# EAGLE library part DIP-BLACK-FEMALE-HEADER-VERT(7P-2.54) (library Seeed-OPL-Connector)
320030102
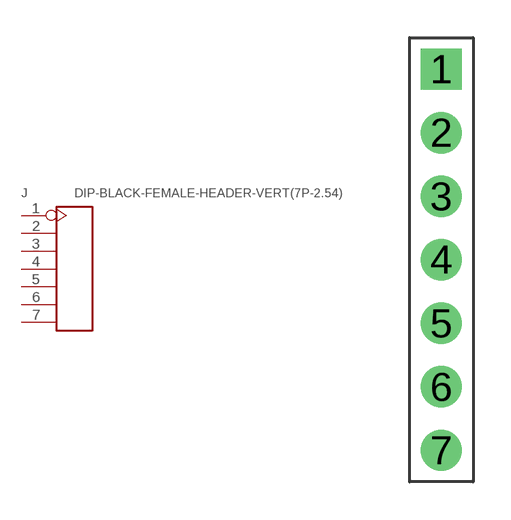
[diagram p124: symbol with the pads of H7-2.54; footprint H7-2.54]

Designator prefix J

## DIP-BLACK-FEMALE-HEADER-VERT(7P-2.54) (MPN: F185-1107A0BSYA1; VALUE: 7p-2.54)  [H7-2.54]
1  1
2  2
3  3
4  4
5  5
6  6
7  7

## Footprint H7-2.54 (pad centres in mm)
drill 0.889 pad 1.651 square: 1 0,7.62
drill 0.889 pad 1.651: 2 0,5.08; 3 0,2.54; 4 0,0; 5 0,-2.54; 6 0,-5.08; 7 0,-7.62